# EAGLE library part PIC_ICSP_6_PIN (library SW_Connectors)
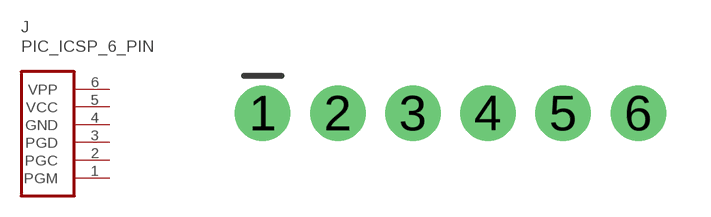
[diagram p18: symbol with the pads of MOLEX-1X6; footprint MOLEX-1X6]

Designator prefix J

## PIC_ICSP_6_PIN (CATEGORY: Connector; PACKAGE: 1x6)  [MOLEX-1X6]
1  PGM
2  PGC
3  PGD
4  GND  pwr
5  VCC  pwr
6  VPP

## Footprint MOLEX-1X6 (pad centres in mm)
Molex 6-Pin Plated Through-Hole Specifications: Pin count:6 Pin pitch:0.1" Datasheet referenced for footprint <https://www.sparkfun.com/datasheets/Prototyping/2pin_molex_set_19iv10.pdf> Example device(s): CONN_06
drill 1.016 pad 1.88: 1 0,0; 2 2.54,0; 3 5.08,0; 4 7.62,0; 5 10.16,0; 6 12.7,0